# Altium schematic symbol library kmilo17pet-PIC16_Part2.SchLib: 1569 symbols (part 41 of 56)
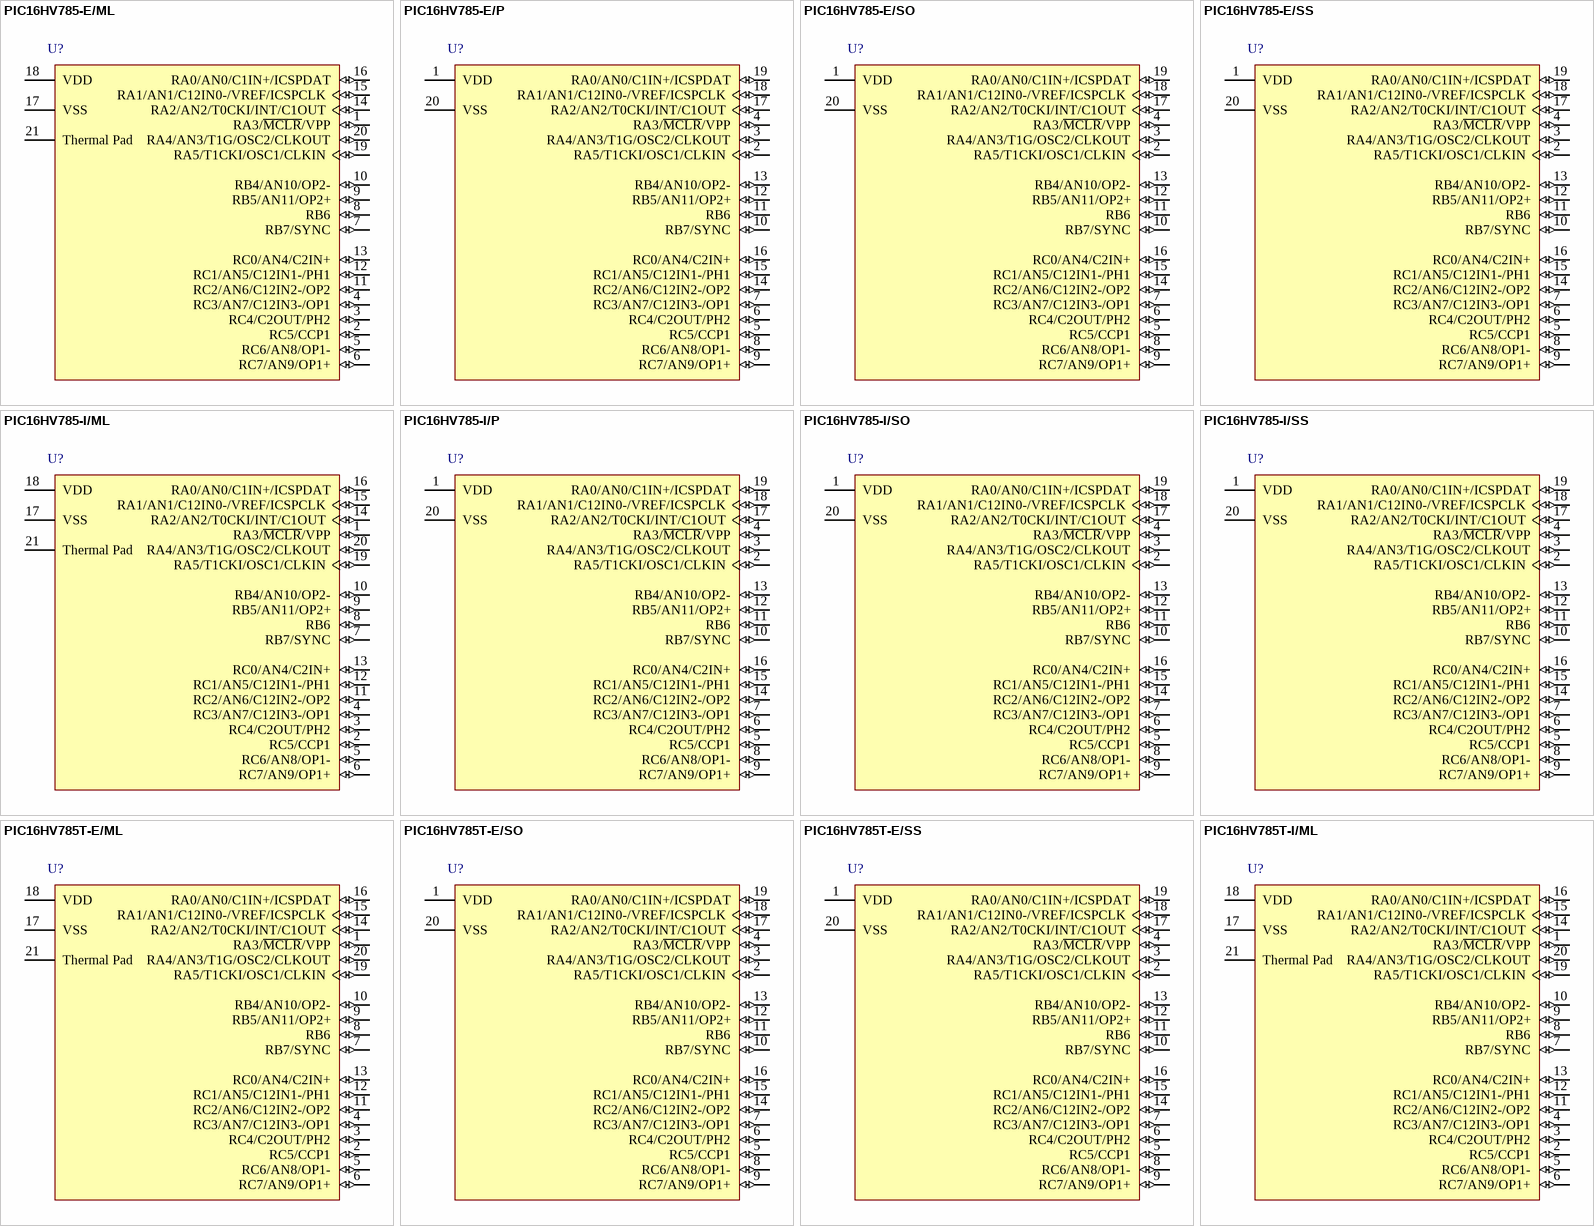
[diagram p165: symbols PIC16HV785-E/ML to PIC16HV785T-I/ML]

## PIC16HV785-I/SS
designator U?
Flash-Based 8-Bit CMOS Microcontroller, 2K (x14-Bit words) Program Memory, 384 Bytes Data Memory, 17 I/O pins, 20-Pin SSOP, Industrial Temperature; Manufacturer: Microchip; PartNumber: PIC16HV785-I/SS; DatasheetVersion: revE, Seb-2008; PackageVersion: revBB, Aug-2009; PackageReference: SSOP-SS20; PackageDescription: 20-Lead Plastic Shrink Small Outline (SS) - 5.3mm Body [SSOP]; Supplier 1: Digi-Key; Supplier Part Number 1: PIC16HV785-I/SS-ND; Supplier 2: Farnell; Supplier Part Number 2: 1332227; Supplier 3: Newark; Supplier Part Number 3: 34M8004; Supplier 4: Mouser; Supplier Part Number 4: 579-PIC16HV785-I/SS; Code_JEDEC: MO-150; ComponentLink1Description: Manufacturer URL; ComponentLink1URL: http://www.microchip.com/; ComponentLink2Description: Datasheet; ComponentLink2URL: http://ww1.microchip.com/downloads/en/DeviceDoc/41249E.pdf; ComponentLink3Description: Package Specification; ComponentLink3URL: http://www.microchip.com/stellent/groups/techpub_sg/documents/packagingspec/en012702.pdf
footprint SSOP-SS20_N (SOP, 20-Leads, Body 7.2x5.2mm, Pitch 0.65mm, IPC Medium Density)
footprint SSOP-SS20_L (SOP, 20-Leads, Body 7.2x5.2mm, Pitch 0.65mm, IPC High Density)
footprint SSOP-SS20_M (SOP, 20-Leads, Body 7.2x5.2mm, Pitch 0.65mm, IPC Low Density)
pins: 1 VDD (power), 2 RA5/T1CKI/OSC1/CLKIN (io), 3 RA4/AN3/T1G/OSC2/CLKOUT (io), 4 RA3/~{MCLR}/VPP (io), 5 RC5/CCP1 (io), 6 RC4/C2OUT/PH2 (io), 7 RC3/AN7/C12IN3-/OP1 (io), 8 RC6/AN8/OP1- (io), 9 RC7/AN9/OP1+ (io), 10 RB7/SYNC (io), 11 RB6 (io), 12 RB5/AN11/OP2+ (io), 13 RB4/AN10/OP2- (io), 14 RC2/AN6/C12IN2-/OP2 (io), 15 RC1/AN5/C12IN1-/PH1 (io), 16 RC0/AN4/C2IN+ (io), 17 RA2/AN2/T0CKI/INT/C1OUT (io), 18 RA1/AN1/C12IN0-/VREF/ICSPCLK (io), 19 RA0/AN0/C1IN+/ICSPDAT (io), 20 VSS (power)

## PIC16HV785T-E/ML
designator U?
Flash-Based 8-Bit CMOS Microcontroller, 2K (x14-Bit words) Program Memory, 384 Bytes Data Memory, 17 I/O pins, 20-Pin QFN, Extended Temperature, Tape and Reel; Manufacturer: Microchip; PartNumber: PIC16HV785T-E/ML; DatasheetVersion: revE, Seb-2008; PackageVersion: revBB, Aug-2009; PackageReference: QFN-ML20; PackageDescription: 20-Lead Plastic Quad Flat, No Lead Package (ML) - 4x4x0.9 mm Body [QFN]; ComponentLink1Description: Manufacturer URL; ComponentLink1URL: http://www.microchip.com/; ComponentLink2Description: Datasheet; ComponentLink2URL: http://ww1.microchip.com/downloads/en/DeviceDoc/41249E.pdf; ComponentLink3Description: Package Specification; ComponentLink3URL: http://www.microchip.com/stellent/groups/techpub_sg/documents/packagingspec/en012702.pdf
footprint QFN-ML20_N (QFN, 20-Leads, Body 4x4mm, Pitch 0.5mm, Thermal Pad 2.8x2.8mm, IPC Medium Density)
footprint QFN-ML20_L (QFN, 20-Leads, Body 4x4mm, Pitch 0.5mm, Thermal Pad 2.8x2.8mm, IPC High Density)
footprint QFN-ML20_M (QFN, 20-Leads, Body 4x4mm, Pitch 0.5mm, Thermal Pad 2.8x2.8mm, IPC Low Density)
pins: 1 RA3/~{MCLR}/VPP (io), 2 RC5/CCP1 (io), 3 RC4/C2OUT/PH2 (io), 4 RC3/AN7/C12IN3-/OP1 (io), 5 RC6/AN8/OP1- (io), 6 RC7/AN9/OP1+ (io), 7 RB7/SYNC (io), 8 RB6 (io), 9 RB5/AN11/OP2+ (io), 10 RB4/AN10/OP2- (io), 11 RC2/AN6/C12IN2-/OP2 (io), 12 RC1/AN5/C12IN1-/PH1 (io), 13 RC0/AN4/C2IN+ (io), 14 RA2/AN2/T0CKI/INT/C1OUT (io), 15 RA1/AN1/C12IN0-/VREF/ICSPCLK (io), 16 RA0/AN0/C1IN+/ICSPDAT (io), 17 VSS (power), 18 VDD (power), 19 RA5/T1CKI/OSC1/CLKIN (io), 20 RA4/AN3/T1G/OSC2/CLKOUT (io), 21 Thermal Pad

## PIC16HV785T-E/SO
designator U?
Flash-Based 8-Bit CMOS Microcontroller, 2K (x14-Bit words) Program Memory, 384 Bytes Data Memory, 17 I/O pins, 20-Pin SOIC, Extended Temperature, Tape and Reel; Manufacturer: Microchip; PartNumber: PIC16HV785T-E/SO; DatasheetVersion: revE, Seb-2008; PackageVersion: revBB, Aug-2009; PackageReference: SOIC-SO20; PackageDescription: 20-Lead Plastic Small Outline (SO) - Wide 7.50mm Body [SOIC]; Code_JEDEC: MS-013-AC; Code_IPC: SOIC127P1030-20; ComponentLink1Description: Manufacturer URL; ComponentLink1URL: http://www.microchip.com/; ComponentLink2Description: Datasheet; ComponentLink2URL: http://ww1.microchip.com/downloads/en/DeviceDoc/41249E.pdf; ComponentLink3Description: Package Specification; ComponentLink3URL: http://www.microchip.com/stellent/groups/techpub_sg/documents/packagingspec/en012702.pdf
footprint SOIC-SO20_N (SOIC, 20-Leads, Body 12.8x7.5mm, Pitch 1.27mm, IPC Medium Density)
footprint SOIC-SO20_L (SOIC, 20-Leads, Body 12.8x7.5mm, Pitch 1.27mm, IPC High Density)
footprint SOIC-SO20_M (SOIC, 20-Leads, Body 12.8x7.5mm, Pitch 1.27mm, IPC Low Density)
pins: 1 VDD (power), 2 RA5/T1CKI/OSC1/CLKIN (io), 3 RA4/AN3/T1G/OSC2/CLKOUT (io), 4 RA3/~{MCLR}/VPP (io), 5 RC5/CCP1 (io), 6 RC4/C2OUT/PH2 (io), 7 RC3/AN7/C12IN3-/OP1 (io), 8 RC6/AN8/OP1- (io), 9 RC7/AN9/OP1+ (io), 10 RB7/SYNC (io), 11 RB6 (io), 12 RB5/AN11/OP2+ (io), 13 RB4/AN10/OP2- (io), 14 RC2/AN6/C12IN2-/OP2 (io), 15 RC1/AN5/C12IN1-/PH1 (io), 16 RC0/AN4/C2IN+ (io), 17 RA2/AN2/T0CKI/INT/C1OUT (io), 18 RA1/AN1/C12IN0-/VREF/ICSPCLK (io), 19 RA0/AN0/C1IN+/ICSPDAT (io), 20 VSS (power)

## PIC16HV785T-E/SS
designator U?
Flash-Based 8-Bit CMOS Microcontroller, 2K (x14-Bit words) Program Memory, 384 Bytes Data Memory, 17 I/O pins, 20-Pin SSOP, Extended Temperature, Tape and Reel; Manufacturer: Microchip; PartNumber: PIC16HV785T-E/SS; DatasheetVersion: revE, Seb-2008; PackageVersion: revBB, Aug-2009; PackageReference: SSOP-SS20; PackageDescription: 20-Lead Plastic Shrink Small Outline (SS) - 5.3mm Body [SSOP]; Code_JEDEC: MO-150; ComponentLink1Description: Manufacturer URL; ComponentLink1URL: http://www.microchip.com/; ComponentLink2Description: Datasheet; ComponentLink2URL: http://ww1.microchip.com/downloads/en/DeviceDoc/41249E.pdf; ComponentLink3Description: Package Specification; ComponentLink3URL: http://www.microchip.com/stellent/groups/techpub_sg/documents/packagingspec/en012702.pdf
footprint SSOP-SS20_N (SOP, 20-Leads, Body 7.2x5.2mm, Pitch 0.65mm, IPC Medium Density)
footprint SSOP-SS20_L (SOP, 20-Leads, Body 7.2x5.2mm, Pitch 0.65mm, IPC High Density)
footprint SSOP-SS20_M (SOP, 20-Leads, Body 7.2x5.2mm, Pitch 0.65mm, IPC Low Density)
pins: 1 VDD (power), 2 RA5/T1CKI/OSC1/CLKIN (io), 3 RA4/AN3/T1G/OSC2/CLKOUT (io), 4 RA3/~{MCLR}/VPP (io), 5 RC5/CCP1 (io), 6 RC4/C2OUT/PH2 (io), 7 RC3/AN7/C12IN3-/OP1 (io), 8 RC6/AN8/OP1- (io), 9 RC7/AN9/OP1+ (io), 10 RB7/SYNC (io), 11 RB6 (io), 12 RB5/AN11/OP2+ (io), 13 RB4/AN10/OP2- (io), 14 RC2/AN6/C12IN2-/OP2 (io), 15 RC1/AN5/C12IN1-/PH1 (io), 16 RC0/AN4/C2IN+ (io), 17 RA2/AN2/T0CKI/INT/C1OUT (io), 18 RA1/AN1/C12IN0-/VREF/ICSPCLK (io), 19 RA0/AN0/C1IN+/ICSPDAT (io), 20 VSS (power)

## PIC16HV785T-I/ML
designator U?
Flash-Based 8-Bit CMOS Microcontroller, 2K (x14-Bit words) Program Memory, 384 Bytes Data Memory, 17 I/O pins, 20-Pin QFN, Industrial Temperature, Tape and Reel; Manufacturer: Microchip; PartNumber: PIC16HV785T-I/ML; DatasheetVersion: revE, Seb-2008; PackageVersion: revBB, Aug-2009; PackageReference: QFN-ML20; PackageDescription: 20-Lead Plastic Quad Flat, No Lead Package (ML) - 4x4x0.9 mm Body [QFN]; Supplier 1: Digi-Key; Supplier Part Number 1: PIC16HV785T-I/ML-ND; Supplier 2: Mouser; Supplier Part Number 2: 579-PIC16HV785T-I/ML; ComponentLink1Description: Manufacturer URL; ComponentLink1URL: http://www.microchip.com/; ComponentLink2Description: Datasheet; ComponentLink2URL: http://ww1.microchip.com/downloads/en/DeviceDoc/41249E.pdf; ComponentLink3Description: Package Specification; ComponentLink3URL: http://www.microchip.com/stellent/groups/techpub_sg/documents/packagingspec/en012702.pdf
footprint QFN-ML20_N (QFN, 20-Leads, Body 4x4mm, Pitch 0.5mm, Thermal Pad 2.8x2.8mm, IPC Medium Density)
footprint QFN-ML20_L (QFN, 20-Leads, Body 4x4mm, Pitch 0.5mm, Thermal Pad 2.8x2.8mm, IPC High Density)
footprint QFN-ML20_M (QFN, 20-Leads, Body 4x4mm, Pitch 0.5mm, Thermal Pad 2.8x2.8mm, IPC Low Density)
pins: 1 RA3/~{MCLR}/VPP (io), 2 RC5/CCP1 (io), 3 RC4/C2OUT/PH2 (io), 4 RC3/AN7/C12IN3-/OP1 (io), 5 RC6/AN8/OP1- (io), 6 RC7/AN9/OP1+ (io), 7 RB7/SYNC (io), 8 RB6 (io), 9 RB5/AN11/OP2+ (io), 10 RB4/AN10/OP2- (io), 11 RC2/AN6/C12IN2-/OP2 (io), 12 RC1/AN5/C12IN1-/PH1 (io), 13 RC0/AN4/C2IN+ (io), 14 RA2/AN2/T0CKI/INT/C1OUT (io), 15 RA1/AN1/C12IN0-/VREF/ICSPCLK (io), 16 RA0/AN0/C1IN+/ICSPDAT (io), 17 VSS (power), 18 VDD (power), 19 RA5/T1CKI/OSC1/CLKIN (io), 20 RA4/AN3/T1G/OSC2/CLKOUT (io), 21 Thermal Pad

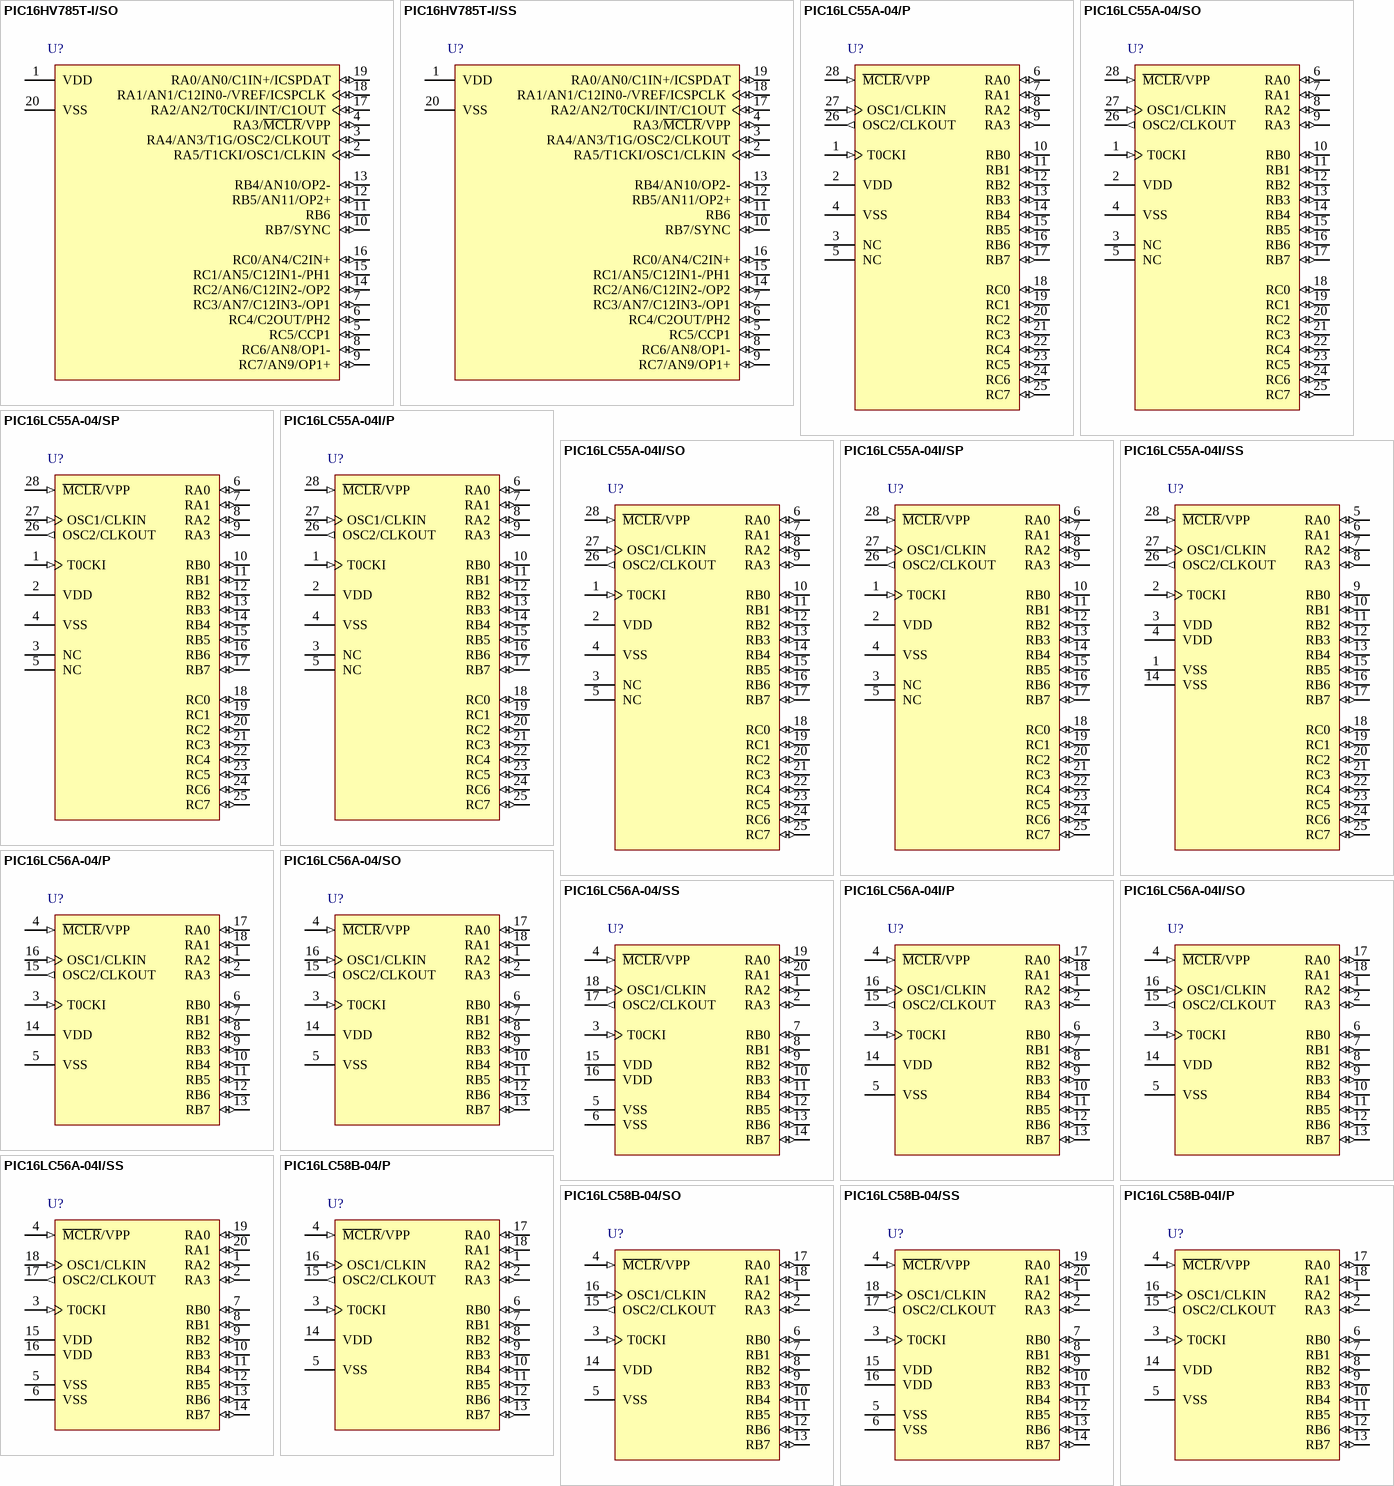
[diagram p88: symbols PIC16HV785T-I/SO to PIC16LC58B-04I/P]

## PIC16HV785T-I/SO
designator U?
Flash-Based 8-Bit CMOS Microcontroller, 2K (x14-Bit words) Program Memory, 384 Bytes Data Memory, 17 I/O pins, 20-Pin SOIC, Industrial Temperature, Tape and Reel; Manufacturer: Microchip; PartNumber: PIC16HV785T-I/SO; DatasheetVersion: revE, Seb-2008; PackageVersion: revBB, Aug-2009; PackageReference: SOIC-SO20; PackageDescription: 20-Lead Plastic Small Outline (SO) - Wide 7.50mm Body [SOIC]; Supplier 1: Digi-Key; Supplier Part Number 1: PIC16HV785T-I/SO-ND; Supplier 2: Mouser; Supplier Part Number 2: 579-PIC16HV785T-I/SO; Code_JEDEC: MS-013-AC; Code_IPC: SOIC127P1030-20; ComponentLink1Description: Manufacturer URL; ComponentLink1URL: http://www.microchip.com/; ComponentLink2Description: Datasheet; ComponentLink2URL: http://ww1.microchip.com/downloads/en/DeviceDoc/41249E.pdf; ComponentLink3Description: Package Specification; ComponentLink3URL: http://www.microchip.com/stellent/groups/techpub_sg/documents/packagingspec/en012702.pdf
footprint SOIC-SO20_N (SOIC, 20-Leads, Body 12.8x7.5mm, Pitch 1.27mm, IPC Medium Density)
footprint SOIC-SO20_L (SOIC, 20-Leads, Body 12.8x7.5mm, Pitch 1.27mm, IPC High Density)
footprint SOIC-SO20_M (SOIC, 20-Leads, Body 12.8x7.5mm, Pitch 1.27mm, IPC Low Density)
pins: 1 VDD (power), 2 RA5/T1CKI/OSC1/CLKIN (io), 3 RA4/AN3/T1G/OSC2/CLKOUT (io), 4 RA3/~{MCLR}/VPP (io), 5 RC5/CCP1 (io), 6 RC4/C2OUT/PH2 (io), 7 RC3/AN7/C12IN3-/OP1 (io), 8 RC6/AN8/OP1- (io), 9 RC7/AN9/OP1+ (io), 10 RB7/SYNC (io), 11 RB6 (io), 12 RB5/AN11/OP2+ (io), 13 RB4/AN10/OP2- (io), 14 RC2/AN6/C12IN2-/OP2 (io), 15 RC1/AN5/C12IN1-/PH1 (io), 16 RC0/AN4/C2IN+ (io), 17 RA2/AN2/T0CKI/INT/C1OUT (io), 18 RA1/AN1/C12IN0-/VREF/ICSPCLK (io), 19 RA0/AN0/C1IN+/ICSPDAT (io), 20 VSS (power)

## PIC16HV785T-I/SS
designator U?
Flash-Based 8-Bit CMOS Microcontroller, 2K (x14-Bit words) Program Memory, 384 Bytes Data Memory, 17 I/O pins, 20-Pin SSOP, Industrial Temperature, Tape and Reel; Manufacturer: Microchip; PartNumber: PIC16HV785T-I/SS; DatasheetVersion: revE, Seb-2008; PackageVersion: revBB, Aug-2009; PackageReference: SSOP-SS20; PackageDescription: 20-Lead Plastic Shrink Small Outline (SS) - 5.3mm Body [SSOP]; Supplier 1: Digi-Key; Supplier Part Number 1: PIC16HV785T-I/SS-ND; Supplier 2: Mouser; Supplier Part Number 2: 579-PIC16HV785T-I/SS; Code_JEDEC: MO-150; ComponentLink1Description: Manufacturer URL; ComponentLink1URL: http://www.microchip.com/; ComponentLink2Description: Datasheet; ComponentLink2URL: http://ww1.microchip.com/downloads/en/DeviceDoc/41249E.pdf; ComponentLink3Description: Package Specification; ComponentLink3URL: http://www.microchip.com/stellent/groups/techpub_sg/documents/packagingspec/en012702.pdf
footprint SSOP-SS20_N (SOP, 20-Leads, Body 7.2x5.2mm, Pitch 0.65mm, IPC Medium Density)
footprint SSOP-SS20_L (SOP, 20-Leads, Body 7.2x5.2mm, Pitch 0.65mm, IPC High Density)
footprint SSOP-SS20_M (SOP, 20-Leads, Body 7.2x5.2mm, Pitch 0.65mm, IPC Low Density)
pins: 1 VDD (power), 2 RA5/T1CKI/OSC1/CLKIN (io), 3 RA4/AN3/T1G/OSC2/CLKOUT (io), 4 RA3/~{MCLR}/VPP (io), 5 RC5/CCP1 (io), 6 RC4/C2OUT/PH2 (io), 7 RC3/AN7/C12IN3-/OP1 (io), 8 RC6/AN8/OP1- (io), 9 RC7/AN9/OP1+ (io), 10 RB7/SYNC (io), 11 RB6 (io), 12 RB5/AN11/OP2+ (io), 13 RB4/AN10/OP2- (io), 14 RC2/AN6/C12IN2-/OP2 (io), 15 RC1/AN5/C12IN1-/PH1 (io), 16 RC0/AN4/C2IN+ (io), 17 RA2/AN2/T0CKI/INT/C1OUT (io), 18 RA1/AN1/C12IN0-/VREF/ICSPCLK (io), 19 RA0/AN0/C1IN+/ICSPDAT (io), 20 VSS (power)

## PIC16LC55A-04/P
designator U?
EPROM-Based 8-Bit CMOS Microcontroller, 24 Bytes RAM, 4 MHz, 28-Pin PDIP 600mil, 2.5 to 5.5V Supply Range, Commercial Temperature; Manufacturer: Microchip; PartNumber: PIC16LC55A-04/P; DatasheetVersion: revD, Mar-2002; PackageVersion: revBB, Aug-2009; PackageReference: PDIP600-P28; PackageDescription: 28-Lead Plastic Dual In-Line (P) - 600 mil Body [PDIP]; Supplier 1: Digi-Key; Supplier Part Number 1: PIC16LC55A-04/P-ND; Supplier 2: Mouser; Supplier Part Number 2: 579-PIC16LC55A-04/P; Code_JEDEC: MO-011; ComponentLink1Description: Manufacturer URL; ComponentLink1URL: http://www.microchip.com/; ComponentLink2Description: Datasheet; ComponentLink2URL: http://ww1.microchip.com/downloads/en/DeviceDoc/30453d.pdf; ComponentLink3Description: Package Specification; ComponentLink3URL: http://www.microchip.com/stellent/groups/techpub_sg/documents/packagingspec/en012702.pdf
footprint PDIP600-P28 (DIP, 28-Leads, Row Spacing 15.24mm, Pitch 2.54mm, Body 37.4x13.5mm)
pins: 1 T0CKI (in), 2 VDD (power), 3 NC, 4 VSS (power), 5 NC, 6 RA0 (io), 7 RA1 (io), 8 RA2 (io), 9 RA3 (io), 10 RB0 (io), 11 RB1 (io), 12 RB2 (io), 13 RB3 (io), 14 RB4 (io), 15 RB5 (io), 16 RB6 (io), 17 RB7 (io), 18 RC0 (io), 19 RC1 (io), 20 RC2 (io), 21 RC3 (io), 22 RC4 (io), 23 RC5 (io), 24 RC6 (io), 25 RC7 (io), 26 OSC2/CLKOUT (out), 27 OSC1/CLKIN (in), 28 ~{MCLR}/VPP (in)

## PIC16LC55A-04/SO
designator U?
EPROM-Based 8-Bit CMOS Microcontroller, 24 Bytes RAM, 4 MHz, 28-Pin SOIC, 2.5 to 5.5V Supply Range, Commercial Temperature; Manufacturer: Microchip; PartNumber: PIC16LC55A-04/SO; DatasheetVersion: revD, Mar-2002; PackageVersion: revBB, Aug-2009; PackageReference: SOIC-SO28; PackageDescription: 28-Lead Plastic Small Outline (SO) - Wide 7.50mm Body [SOIC]; Supplier 1: Digi-Key; Supplier Part Number 1: PIC16LC55A-04/SO-ND; Supplier 2: Newark; Supplier Part Number 2: 23C5186; Supplier 3: Mouser; Supplier Part Number 3: 579-PIC16LC55A-04/SO; Code_JEDEC: MS-013; ComponentLink1Description: Manufacturer URL; ComponentLink1URL: http://www.microchip.com/; ComponentLink2Description: Datasheet; ComponentLink2URL: http://ww1.microchip.com/downloads/en/DeviceDoc/30453d.pdf; ComponentLink3Description: Package Specification; ComponentLink3URL: http://www.microchip.com/stellent/groups/techpub_sg/documents/packagingspec/en012702.pdf
footprint SOIC-SO28_N (SOIC, 28-Leads, Body 17.9x7.5mm, Pitch 1.27mm, IPC Medium Density)
footprint SOIC-SO28_L (SOIC, 28-Leads, Body 17.9x7.5mm, Pitch 1.27mm, IPC High Density)
footprint SOIC-SO28_M (SOIC, 28-Leads, Body 17.9x7.5mm, Pitch 1.27mm, IPC Low Density)
pins: 1 T0CKI (in), 2 VDD (power), 3 NC, 4 VSS (power), 5 NC, 6 RA0 (io), 7 RA1 (io), 8 RA2 (io), 9 RA3 (io), 10 RB0 (io), 11 RB1 (io), 12 RB2 (io), 13 RB3 (io), 14 RB4 (io), 15 RB5 (io), 16 RB6 (io), 17 RB7 (io), 18 RC0 (io), 19 RC1 (io), 20 RC2 (io), 21 RC3 (io), 22 RC4 (io), 23 RC5 (io), 24 RC6 (io), 25 RC7 (io), 26 OSC2/CLKOUT (out), 27 OSC1/CLKIN (in), 28 ~{MCLR}/VPP (in)

## PIC16LC55A-04/SP
designator U?
EPROM-Based 8-Bit CMOS Microcontroller, 24 Bytes RAM, 4 MHz, 28-Pin PDIP 300mil, 2.5 to 5.5V Supply Range, Commercial Temperature; Manufacturer: Microchip; PartNumber: PIC16LC55A-04/SP; DatasheetVersion: revD, Mar-2002; PackageVersion: revBB, Aug-2009; PackageReference: SPDIP300-SP28; PackageDescription: 28-Lead Skinny Plastic Dual In-Line (SP) - 300 mil Body [SPDIP]; Supplier 1: Digi-Key; Supplier Part Number 1: PIC16LC55A-04/SP-ND; Supplier 2: Mouser; Supplier Part Number 2: 579-PIC16LC55A-04/SP; ComponentLink1Description: Manufacturer URL; ComponentLink1URL: http://www.microchip.com/; ComponentLink2Description: Datasheet; ComponentLink2URL: http://ww1.microchip.com/downloads/en/DeviceDoc/30453d.pdf; ComponentLink3Description: Package Specification; ComponentLink3URL: http://www.microchip.com/stellent/groups/techpub_sg/documents/packagingspec/en012702.pdf
footprint SPDIP300-SP28 (DIP, 28-Leads, Row Spacing 7.62mm, Pitch 2.54mm, Body 34.9x6.8mm)
pins: 1 T0CKI (in), 2 VDD (power), 3 NC, 4 VSS (power), 5 NC, 6 RA0 (io), 7 RA1 (io), 8 RA2 (io), 9 RA3 (io), 10 RB0 (io), 11 RB1 (io), 12 RB2 (io), 13 RB3 (io), 14 RB4 (io), 15 RB5 (io), 16 RB6 (io), 17 RB7 (io), 18 RC0 (io), 19 RC1 (io), 20 RC2 (io), 21 RC3 (io), 22 RC4 (io), 23 RC5 (io), 24 RC6 (io), 25 RC7 (io), 26 OSC2/CLKOUT (out), 27 OSC1/CLKIN (in), 28 ~{MCLR}/VPP (in)

## PIC16LC55A-04I/P
designator U?
EPROM-Based 8-Bit CMOS Microcontroller, 24 Bytes RAM, 4 MHz, 28-Pin PDIP 600mil, 2.7 to 5.5V Supply Range, Industrial Temperature; Manufacturer: Microchip; PartNumber: PIC16LC55A-04I/P; DatasheetVersion: revD, Mar-2002; PackageVersion: revBB, Aug-2009; PackageReference: PDIP600-P28; PackageDescription: 28-Lead Plastic Dual In-Line (P) - 600 mil Body [PDIP]; Supplier 1: Digi-Key; Supplier Part Number 1: PIC16LC55A-04I/P-ND; Supplier 2: Mouser; Supplier Part Number 2: 579-PIC16LC55A-04I/P; Code_JEDEC: MO-011; ComponentLink1Description: Manufacturer URL; ComponentLink1URL: http://www.microchip.com/; ComponentLink2Description: Datasheet; ComponentLink2URL: http://ww1.microchip.com/downloads/en/DeviceDoc/30453d.pdf; ComponentLink3Description: Package Specification; ComponentLink3URL: http://www.microchip.com/stellent/groups/techpub_sg/documents/packagingspec/en012702.pdf
footprint PDIP600-P28 (DIP, 28-Leads, Row Spacing 15.24mm, Pitch 2.54mm, Body 37.4x13.5mm)
pins: 1 T0CKI (in), 2 VDD (power), 3 NC, 4 VSS (power), 5 NC, 6 RA0 (io), 7 RA1 (io), 8 RA2 (io), 9 RA3 (io), 10 RB0 (io), 11 RB1 (io), 12 RB2 (io), 13 RB3 (io), 14 RB4 (io), 15 RB5 (io), 16 RB6 (io), 17 RB7 (io), 18 RC0 (io), 19 RC1 (io), 20 RC2 (io), 21 RC3 (io), 22 RC4 (io), 23 RC5 (io), 24 RC6 (io), 25 RC7 (io), 26 OSC2/CLKOUT (out), 27 OSC1/CLKIN (in), 28 ~{MCLR}/VPP (in)

## PIC16LC55A-04I/SO
designator U?
EPROM-Based 8-Bit CMOS Microcontroller, 24 Bytes RAM, 4 MHz, 28-Pin SOIC, 2.7 to 5.5V Supply Range, Industrial Temperature; Manufacturer: Microchip; PartNumber: PIC16LC55A-04I/SO; DatasheetVersion: revD, Mar-2002; PackageVersion: revBB, Aug-2009; PackageReference: SOIC-SO28; PackageDescription: 28-Lead Plastic Small Outline (SO) - Wide 7.50mm Body [SOIC]; Supplier 1: Digi-Key; Supplier Part Number 1: PIC16LC55A-04I/SO-ND; Supplier 2: Mouser; Supplier Part Number 2: 579-16LC55A-04I/SO; Code_JEDEC: MS-013; ComponentLink1Description: Manufacturer URL; ComponentLink1URL: http://www.microchip.com/; ComponentLink2Description: Datasheet; ComponentLink2URL: http://ww1.microchip.com/downloads/en/DeviceDoc/30453d.pdf; ComponentLink3Description: Package Specification; ComponentLink3URL: http://www.microchip.com/stellent/groups/techpub_sg/documents/packagingspec/en012702.pdf
footprint SOIC-SO28_N (SOIC, 28-Leads, Body 17.9x7.5mm, Pitch 1.27mm, IPC Medium Density)
footprint SOIC-SO28_L (SOIC, 28-Leads, Body 17.9x7.5mm, Pitch 1.27mm, IPC High Density)
footprint SOIC-SO28_M (SOIC, 28-Leads, Body 17.9x7.5mm, Pitch 1.27mm, IPC Low Density)
pins: 1 T0CKI (in), 2 VDD (power), 3 NC, 4 VSS (power), 5 NC, 6 RA0 (io), 7 RA1 (io), 8 RA2 (io), 9 RA3 (io), 10 RB0 (io), 11 RB1 (io), 12 RB2 (io), 13 RB3 (io), 14 RB4 (io), 15 RB5 (io), 16 RB6 (io), 17 RB7 (io), 18 RC0 (io), 19 RC1 (io), 20 RC2 (io), 21 RC3 (io), 22 RC4 (io), 23 RC5 (io), 24 RC6 (io), 25 RC7 (io), 26 OSC2/CLKOUT (out), 27 OSC1/CLKIN (in), 28 ~{MCLR}/VPP (in)

## PIC16LC55A-04I/SP
designator U?
EPROM-Based 8-Bit CMOS Microcontroller, 24 Bytes RAM, 4 MHz, 28-Pin PDIP 300mil, 2.7 to 5.5V Supply Range, Industrial Temperature; Manufacturer: Microchip; PartNumber: PIC16LC55A-04I/SP; DatasheetVersion: revD, Mar-2002; PackageVersion: revBB, Aug-2009; PackageReference: SPDIP300-SP28; PackageDescription: 28-Lead Skinny Plastic Dual In-Line (SP) - 300 mil Body [SPDIP]; Supplier 1: Digi-Key; Supplier Part Number 1: PIC16LC55A-04I/SP-ND; Supplier 2: Mouser; Supplier Part Number 2: 579-16LC55A-04I/SP; ComponentLink1Description: Manufacturer URL; ComponentLink1URL: http://www.microchip.com/; ComponentLink2Description: Datasheet; ComponentLink2URL: http://ww1.microchip.com/downloads/en/DeviceDoc/30453d.pdf; ComponentLink3Description: Package Specification; ComponentLink3URL: http://www.microchip.com/stellent/groups/techpub_sg/documents/packagingspec/en012702.pdf
footprint SPDIP300-SP28 (DIP, 28-Leads, Row Spacing 7.62mm, Pitch 2.54mm, Body 34.9x6.8mm)
pins: 1 T0CKI (in), 2 VDD (power), 3 NC, 4 VSS (power), 5 NC, 6 RA0 (io), 7 RA1 (io), 8 RA2 (io), 9 RA3 (io), 10 RB0 (io), 11 RB1 (io), 12 RB2 (io), 13 RB3 (io), 14 RB4 (io), 15 RB5 (io), 16 RB6 (io), 17 RB7 (io), 18 RC0 (io), 19 RC1 (io), 20 RC2 (io), 21 RC3 (io), 22 RC4 (io), 23 RC5 (io), 24 RC6 (io), 25 RC7 (io), 26 OSC2/CLKOUT (out), 27 OSC1/CLKIN (in), 28 ~{MCLR}/VPP (in)

## PIC16LC55A-04I/SS
designator U?
EPROM-Based 8-Bit CMOS Microcontroller, 24 Bytes RAM, 4 MHz, 28-Pin SSOP, 2.7 to 5.5V Supply Range, Industrial Temperature; Manufacturer: Microchip; PartNumber: PIC16LC55A-04I/SS; DatasheetVersion: revD, Mar-2002; PackageVersion: revBB, Aug-2009; PackageReference: SSOP-SS28; PackageDescription: 28-Lead Plastic Shrink Small Outline (SS) - 5.3mm Body [SSOP]; Supplier 1: Digi-Key; Supplier Part Number 1: PIC16LC55A-04I/SS-ND; Supplier 2: Mouser; Supplier Part Number 2: 579-16LC55A-04I/SS; Code_JEDEC: MS-150; ComponentLink1Description: Manufacturer URL; ComponentLink1URL: http://www.microchip.com/; ComponentLink2Description: Datasheet; ComponentLink2URL: http://ww1.microchip.com/downloads/en/DeviceDoc/30453d.pdf; ComponentLink3Description: Package Specification; ComponentLink3URL: http://www.microchip.com/stellent/groups/techpub_sg/documents/packagingspec/en012702.pdf
footprint SSOP-SS28_N (SOP, 28-Leads, Body 10.2x5.2mm, Pitch 0.65mm, IPC Medium Density)
footprint SSOP-SS28_L (SOP, 28-Leads, Body 10.2x5.2mm, Pitch 0.65mm, IPC High Density)
footprint SSOP-SS28_M (SOP, 28-Leads, Body 10.2x5.2mm, Pitch 0.65mm, IPC Low Density)
pins: 1 VSS (power), 2 T0CKI (in), 3 VDD (power), 4 VDD (power), 5 RA0 (io), 6 RA1 (io), 7 RA2 (io), 8 RA3 (io), 9 RB0 (io), 10 RB1 (io), 11 RB2 (io), 12 RB3 (io), 13 RB4 (io), 14 VSS (power), 15 RB5 (io), 16 RB6 (io), 17 RB7 (io), 18 RC0 (io), 19 RC1 (io), 20 RC2 (io), 21 RC3 (io), 22 RC4 (io), 23 RC5 (io), 24 RC6 (io), 25 RC7 (io), 26 OSC2/CLKOUT (out), 27 OSC1/CLKIN (in), 28 ~{MCLR}/VPP (in)

## PIC16LC56A-04/P
designator U?
EPROM-Based 8-Bit CMOS Microcontroller, 25 Bytes RAM, 4 MHz, 18-Pin PDIP, 2.5 to 5.5V Supply Range, Commercial Temperature; Manufacturer: Microchip; PartNumber: PIC16LC56A-04/P; DatasheetVersion: revD, Mar-2002; PackageVersion: revBB, Aug-2009; PackageReference: PDIP300-P18; PackageDescription: 18-Lead Plastic Dual In-Line (P) - 300 mil Body [PDIP]; Supplier 1: Digi-Key; Supplier Part Number 1: PIC16LC56A-04/P-ND; Supplier 2: Mouser; Supplier Part Number 2: 579-PIC16LC56A-04/P; Code_JEDEC: MS-001; ComponentLink1Description: Manufacturer URL; ComponentLink1URL: http://www.microchip.com/; ComponentLink2Description: Datasheet; ComponentLink2URL: http://ww1.microchip.com/downloads/en/DeviceDoc/30453d.pdf; ComponentLink3Description: Package Specification; ComponentLink3URL: http://www.microchip.com/stellent/groups/techpub_sg/documents/packagingspec/en012702.pdf
footprint PDIP300-P18 (DIP, 18-Leads, Row Spacing 7.62mm, Pitch 2.54mm, Body 22.9x6.6mm)
pins: 1 RA2 (io), 2 RA3 (io), 3 T0CKI (in), 4 ~{MCLR}/VPP (in), 5 VSS (power), 6 RB0 (io), 7 RB1 (io), 8 RB2 (io), 9 RB3 (io), 10 RB4 (io), 11 RB5 (io), 12 RB6 (io), 13 RB7 (io), 14 VDD (power), 15 OSC2/CLKOUT (out), 16 OSC1/CLKIN (in), 17 RA0 (io), 18 RA1 (io)

## PIC16LC56A-04/SO
designator U?
EPROM-Based 8-Bit CMOS Microcontroller, 25 Bytes RAM, 4 MHz, 18-Pin SOIC, 2.5 to 5.5V Supply Range, Commercial Temperature; Manufacturer: Microchip; PartNumber: PIC16LC56A-04/SO; DatasheetVersion: revD, Mar-2002; PackageVersion: revBB, Aug-2009; PackageReference: SOIC-SO18; PackageDescription: 18-Lead Plastic Small Outline (SO) - Wide 7.50mm Body [SOIC]; Supplier 1: Digi-Key; Supplier Part Number 1: PIC16LC56A-04/SO-ND; Supplier 2: Mouser; Supplier Part Number 2: 579-PIC16LC56A-04/SO; Code_JEDEC: MS-013; ComponentLink1Description: Manufacturer URL; ComponentLink1URL: http://www.microchip.com/; ComponentLink2Description: Datasheet; ComponentLink2URL: http://ww1.microchip.com/downloads/en/DeviceDoc/30453d.pdf; ComponentLink3Description: Package Specification; ComponentLink3URL: http://www.microchip.com/stellent/groups/techpub_sg/documents/packagingspec/en012702.pdf
footprint SOIC-SO18_N (SOIC, 18-Leads, Body 11.5x7.5mm, Pitch 1.27mm, IPC Medium Density)
footprint SOIC-SO18_L (SOIC, 18-Leads, Body 11.5x7.5mm, Pitch 1.27mm, IPC High Density)
footprint SOIC-SO18_M (SOIC, 18-Leads, Body 11.5x7.5mm, Pitch 1.27mm, IPC Low Density)
pins: 1 RA2 (io), 2 RA3 (io), 3 T0CKI (in), 4 ~{MCLR}/VPP (in), 5 VSS (power), 6 RB0 (io), 7 RB1 (io), 8 RB2 (io), 9 RB3 (io), 10 RB4 (io), 11 RB5 (io), 12 RB6 (io), 13 RB7 (io), 14 VDD (power), 15 OSC2/CLKOUT (out), 16 OSC1/CLKIN (in), 17 RA0 (io), 18 RA1 (io)

## PIC16LC56A-04/SS
designator U?
EPROM-Based 8-Bit CMOS Microcontroller, 25 Bytes RAM, 4 MHz, 20-Pin SSOP, 2.5 to 5.5V Supply Range, Commercial Temperature; Manufacturer: Microchip; PartNumber: PIC16LC56A-04/SS; DatasheetVersion: revD, Mar-2002; PackageVersion: revBB, Aug-2009; PackageReference: SSOP-SS20; PackageDescription: 20-Lead Plastic Shrink Small Outline (SS) - 5.3mm Body [SSOP]; Supplier 1: Digi-Key; Supplier Part Number 1: PIC16LC56A-04/SS-ND; Supplier 2: Mouser; Supplier Part Number 2: 579-PIC16LC56A-04/SS; Code_JEDEC: MO-150; ComponentLink1Description: Manufacturer URL; ComponentLink1URL: http://www.microchip.com/; ComponentLink2Description: Datasheet; ComponentLink2URL: http://ww1.microchip.com/downloads/en/DeviceDoc/30453d.pdf; ComponentLink3Description: Package Specification; ComponentLink3URL: http://www.microchip.com/stellent/groups/techpub_sg/documents/packagingspec/en012702.pdf
footprint SSOP-SS20_N (SOP, 20-Leads, Body 7.2x5.2mm, Pitch 0.65mm, IPC Medium Density)
footprint SSOP-SS20_L (SOP, 20-Leads, Body 7.2x5.2mm, Pitch 0.65mm, IPC High Density)
footprint SSOP-SS20_M (SOP, 20-Leads, Body 7.2x5.2mm, Pitch 0.65mm, IPC Low Density)
pins: 1 RA2 (io), 2 RA3 (io), 3 T0CKI (in), 4 ~{MCLR}/VPP (in), 5 VSS (power), 6 VSS (power), 7 RB0 (io), 8 RB1 (io), 9 RB2 (io), 10 RB3 (io), 11 RB4 (io), 12 RB5 (io), 13 RB6 (io), 14 RB7 (io), 15 VDD (power), 16 VDD (power), 17 OSC2/CLKOUT (out), 18 OSC1/CLKIN (in), 19 RA0 (io), 20 RA1 (io)

## PIC16LC56A-04I/P
designator U?
EPROM-Based 8-Bit CMOS Microcontroller, 25 Bytes RAM, 4 MHz, 18-Pin PDIP, 2.7 to 5.5V Supply Range, Industrial Temperature; Manufacturer: Microchip; PartNumber: PIC16LC56A-04I/P; DatasheetVersion: revD, Mar-2002; PackageVersion: revBB, Aug-2009; PackageReference: PDIP300-P18; PackageDescription: 18-Lead Plastic Dual In-Line (P) - 300 mil Body [PDIP]; Supplier 1: Digi-Key; Supplier Part Number 1: PIC16LC56A-04I/P-ND; Supplier 2: Mouser; Supplier Part Number 2: 579-PIC16LC56A-04I/P; Code_JEDEC: MS-001; ComponentLink1Description: Manufacturer URL; ComponentLink1URL: http://www.microchip.com/; ComponentLink2Description: Datasheet; ComponentLink2URL: http://ww1.microchip.com/downloads/en/DeviceDoc/30453d.pdf; ComponentLink3Description: Package Specification; ComponentLink3URL: http://www.microchip.com/stellent/groups/techpub_sg/documents/packagingspec/en012702.pdf
footprint PDIP300-P18 (DIP, 18-Leads, Row Spacing 7.62mm, Pitch 2.54mm, Body 22.9x6.6mm)
pins: 1 RA2 (io), 2 RA3 (io), 3 T0CKI (in), 4 ~{MCLR}/VPP (in), 5 VSS (power), 6 RB0 (io), 7 RB1 (io), 8 RB2 (io), 9 RB3 (io), 10 RB4 (io), 11 RB5 (io), 12 RB6 (io), 13 RB7 (io), 14 VDD (power), 15 OSC2/CLKOUT (out), 16 OSC1/CLKIN (in), 17 RA0 (io), 18 RA1 (io)

## PIC16LC56A-04I/SO
designator U?
EPROM-Based 8-Bit CMOS Microcontroller, 25 Bytes RAM, 4 MHz, 18-Pin SOIC, 2.7 to 5.5V Supply Range, Industrial Temperature; Manufacturer: Microchip; PartNumber: PIC16LC56A-04I/SO; DatasheetVersion: revD, Mar-2002; PackageVersion: revBB, Aug-2009; PackageReference: SOIC-SO18; PackageDescription: 18-Lead Plastic Small Outline (SO) - Wide 7.50mm Body [SOIC]; Supplier 1: Digi-Key; Supplier Part Number 1: PIC16LC56A-04I/SO-ND; Supplier 2: Mouser; Supplier Part Number 2: 579-16LC56A-04I/SO; Code_JEDEC: MS-013; ComponentLink1Description: Manufacturer URL; ComponentLink1URL: http://www.microchip.com/; ComponentLink2Description: Datasheet; ComponentLink2URL: http://ww1.microchip.com/downloads/en/DeviceDoc/30453d.pdf; ComponentLink3Description: Package Specification; ComponentLink3URL: http://www.microchip.com/stellent/groups/techpub_sg/documents/packagingspec/en012702.pdf
footprint SOIC-SO18_N (SOIC, 18-Leads, Body 11.5x7.5mm, Pitch 1.27mm, IPC Medium Density)
footprint SOIC-SO18_L (SOIC, 18-Leads, Body 11.5x7.5mm, Pitch 1.27mm, IPC High Density)
footprint SOIC-SO18_M (SOIC, 18-Leads, Body 11.5x7.5mm, Pitch 1.27mm, IPC Low Density)
pins: 1 RA2 (io), 2 RA3 (io), 3 T0CKI (in), 4 ~{MCLR}/VPP (in), 5 VSS (power), 6 RB0 (io), 7 RB1 (io), 8 RB2 (io), 9 RB3 (io), 10 RB4 (io), 11 RB5 (io), 12 RB6 (io), 13 RB7 (io), 14 VDD (power), 15 OSC2/CLKOUT (out), 16 OSC1/CLKIN (in), 17 RA0 (io), 18 RA1 (io)

## PIC16LC56A-04I/SS
designator U?
EPROM-Based 8-Bit CMOS Microcontroller, 25 Bytes RAM, 4 MHz, 20-Pin SSOP, 2.7 to 5.5V Supply Range, Industrial Temperature; Manufacturer: Microchip; PartNumber: PIC16LC56A-04I/SS; DatasheetVersion: revD, Mar-2002; PackageVersion: revBB, Aug-2009; PackageReference: SSOP-SS20; PackageDescription: 20-Lead Plastic Shrink Small Outline (SS) - 5.3mm Body [SSOP]; Supplier 1: Digi-Key; Supplier Part Number 1: PIC16LC56A-04I/SS-ND; Supplier 2: Mouser; Supplier Part Number 2: 579-16LC56A-04I/SS; Code_JEDEC: MO-150; ComponentLink1Description: Manufacturer URL; ComponentLink1URL: http://www.microchip.com/; ComponentLink2Description: Datasheet; ComponentLink2URL: http://ww1.microchip.com/downloads/en/DeviceDoc/30453d.pdf; ComponentLink3Description: Package Specification; ComponentLink3URL: http://www.microchip.com/stellent/groups/techpub_sg/documents/packagingspec/en012702.pdf
footprint SSOP-SS20_N (SOP, 20-Leads, Body 7.2x5.2mm, Pitch 0.65mm, IPC Medium Density)
footprint SSOP-SS20_L (SOP, 20-Leads, Body 7.2x5.2mm, Pitch 0.65mm, IPC High Density)
footprint SSOP-SS20_M (SOP, 20-Leads, Body 7.2x5.2mm, Pitch 0.65mm, IPC Low Density)
pins: 1 RA2 (io), 2 RA3 (io), 3 T0CKI (in), 4 ~{MCLR}/VPP (in), 5 VSS (power), 6 VSS (power), 7 RB0 (io), 8 RB1 (io), 9 RB2 (io), 10 RB3 (io), 11 RB4 (io), 12 RB5 (io), 13 RB6 (io), 14 RB7 (io), 15 VDD (power), 16 VDD (power), 17 OSC2/CLKOUT (out), 18 OSC1/CLKIN (in), 19 RA0 (io), 20 RA1 (io)

## PIC16LC58B-04/P
designator U?
EPROM-Based 8-Bit CMOS Microcontroller, 73 Bytes RAM, 4 MHz, 18-Pin PDIP, 2.5 to 5.5V Supply Range, Commercial Temperature; Manufacturer: Microchip; PartNumber: PIC16LC58B-04/P; DatasheetVersion: revD, Mar-2002; PackageVersion: revBB, Aug-2009; PackageReference: PDIP300-P18; PackageDescription: 18-Lead Plastic Dual In-Line (P) - 300 mil Body [PDIP]; Supplier 1: Digi-Key; Supplier Part Number 1: PIC16LC58B-04/P-ND; Supplier 2: Mouser; Supplier Part Number 2: 579-PIC16LC58B-04/P; Code_JEDEC: MS-001; ComponentLink1Description: Manufacturer URL; ComponentLink1URL: http://www.microchip.com/; ComponentLink2Description: Datasheet; ComponentLink2URL: http://ww1.microchip.com/downloads/en/DeviceDoc/30453d.pdf; ComponentLink3Description: Package Specification; ComponentLink3URL: http://www.microchip.com/stellent/groups/techpub_sg/documents/packagingspec/en012702.pdf
footprint PDIP300-P18 (DIP, 18-Leads, Row Spacing 7.62mm, Pitch 2.54mm, Body 22.9x6.6mm)
pins: 1 RA2 (io), 2 RA3 (io), 3 T0CKI (in), 4 ~{MCLR}/VPP (in), 5 VSS (power), 6 RB0 (io), 7 RB1 (io), 8 RB2 (io), 9 RB3 (io), 10 RB4 (io), 11 RB5 (io), 12 RB6 (io), 13 RB7 (io), 14 VDD (power), 15 OSC2/CLKOUT (out), 16 OSC1/CLKIN (in), 17 RA0 (io), 18 RA1 (io)

## PIC16LC58B-04/SO
designator U?
EPROM-Based 8-Bit CMOS Microcontroller, 73 Bytes RAM, 4 MHz, 18-Pin SOIC, 2.5 to 5.5V Supply Range, Commercial Temperature; Manufacturer: Microchip; PartNumber: PIC16LC58B-04/SO; DatasheetVersion: revD, Mar-2002; PackageVersion: revBB, Aug-2009; PackageReference: SOIC-SO18; PackageDescription: 18-Lead Plastic Small Outline (SO) - Wide 7.50mm Body [SOIC]; Supplier 1: Digi-Key; Supplier Part Number 1: PIC16LC58B-04/SO-ND; Supplier 2: Mouser; Supplier Part Number 2: 579-PIC16LC58B-04/SO; Code_JEDEC: MS-013; ComponentLink1Description: Manufacturer URL; ComponentLink1URL: http://www.microchip.com/; ComponentLink2Description: Datasheet; ComponentLink2URL: http://ww1.microchip.com/downloads/en/DeviceDoc/30453d.pdf; ComponentLink3Description: Package Specification; ComponentLink3URL: http://www.microchip.com/stellent/groups/techpub_sg/documents/packagingspec/en012702.pdf
footprint SOIC-SO18_N (SOIC, 18-Leads, Body 11.5x7.5mm, Pitch 1.27mm, IPC Medium Density)
footprint SOIC-SO18_L (SOIC, 18-Leads, Body 11.5x7.5mm, Pitch 1.27mm, IPC High Density)
footprint SOIC-SO18_M (SOIC, 18-Leads, Body 11.5x7.5mm, Pitch 1.27mm, IPC Low Density)
pins: 1 RA2 (io), 2 RA3 (io), 3 T0CKI (in), 4 ~{MCLR}/VPP (in), 5 VSS (power), 6 RB0 (io), 7 RB1 (io), 8 RB2 (io), 9 RB3 (io), 10 RB4 (io), 11 RB5 (io), 12 RB6 (io), 13 RB7 (io), 14 VDD (power), 15 OSC2/CLKOUT (out), 16 OSC1/CLKIN (in), 17 RA0 (io), 18 RA1 (io)

## PIC16LC58B-04/SS
designator U?
EPROM-Based 8-Bit CMOS Microcontroller, 73 Bytes RAM, 4 MHz, 20-Pin SSOP, 2.5 to 5.5V Supply Range, Commercial Temperature; Manufacturer: Microchip; PartNumber: PIC16LC58B-04/SS; DatasheetVersion: revD, Mar-2002; PackageVersion: revBB, Aug-2009; PackageReference: SSOP-SS20; PackageDescription: 20-Lead Plastic Shrink Small Outline (SS) - 5.3mm Body [SSOP]; Supplier 1: Digi-Key; Supplier Part Number 1: PIC16LC58B-04/SS-ND; Supplier 2: Mouser; Supplier Part Number 2: 579-PIC16LC58B-04/SS; Code_JEDEC: MO-150; ComponentLink1Description: Manufacturer URL; ComponentLink1URL: http://www.microchip.com/; ComponentLink2Description: Datasheet; ComponentLink2URL: http://ww1.microchip.com/downloads/en/DeviceDoc/30453d.pdf; ComponentLink3Description: Package Specification; ComponentLink3URL: http://www.microchip.com/stellent/groups/techpub_sg/documents/packagingspec/en012702.pdf
footprint SSOP-SS20_N (SOP, 20-Leads, Body 7.2x5.2mm, Pitch 0.65mm, IPC Medium Density)
footprint SSOP-SS20_L (SOP, 20-Leads, Body 7.2x5.2mm, Pitch 0.65mm, IPC High Density)
footprint SSOP-SS20_M (SOP, 20-Leads, Body 7.2x5.2mm, Pitch 0.65mm, IPC Low Density)
pins: 1 RA2 (io), 2 RA3 (io), 3 T0CKI (in), 4 ~{MCLR}/VPP (in), 5 VSS (power), 6 VSS (power), 7 RB0 (io), 8 RB1 (io), 9 RB2 (io), 10 RB3 (io), 11 RB4 (io), 12 RB5 (io), 13 RB6 (io), 14 RB7 (io), 15 VDD (power), 16 VDD (power), 17 OSC2/CLKOUT (out), 18 OSC1/CLKIN (in), 19 RA0 (io), 20 RA1 (io)

## PIC16LC58B-04I/P
designator U?
EPROM-Based 8-Bit CMOS Microcontroller, 73 Bytes RAM, 4 MHz, 18-Pin PDIP, 2.7 to 5.5V Supply Range, Industrial Temperature; Manufacturer: Microchip; PartNumber: PIC16LC58B-04I/P; DatasheetVersion: revD, Mar-2002; PackageVersion: revBB, Aug-2009; PackageReference: PDIP300-P18; PackageDescription: 18-Lead Plastic Dual In-Line (P) - 300 mil Body [PDIP]; Supplier 1: Digi-Key; Supplier Part Number 1: PIC16LC58B-04I/P-ND; Supplier 2: Farnell; Supplier Part Number 2: 9761543; Supplier 3: Farnell; Supplier Part Number 3: 1523968; Supplier 4: Mouser; Supplier Part Number 4: 579-PIC16LC58B-04I/P; Code_JEDEC: MS-001; ComponentLink1Description: Manufacturer URL; ComponentLink1URL: http://www.microchip.com/; ComponentLink2Description: Datasheet; ComponentLink2URL: http://ww1.microchip.com/downloads/en/DeviceDoc/30453d.pdf; ComponentLink3Description: Package Specification; ComponentLink3URL: http://www.microchip.com/stellent/groups/techpub_sg/documents/packagingspec/en012702.pdf
footprint PDIP300-P18 (DIP, 18-Leads, Row Spacing 7.62mm, Pitch 2.54mm, Body 22.9x6.6mm)
pins: 1 RA2 (io), 2 RA3 (io), 3 T0CKI (in), 4 ~{MCLR}/VPP (in), 5 VSS (power), 6 RB0 (io), 7 RB1 (io), 8 RB2 (io), 9 RB3 (io), 10 RB4 (io), 11 RB5 (io), 12 RB6 (io), 13 RB7 (io), 14 VDD (power), 15 OSC2/CLKOUT (out), 16 OSC1/CLKIN (in), 17 RA0 (io), 18 RA1 (io)

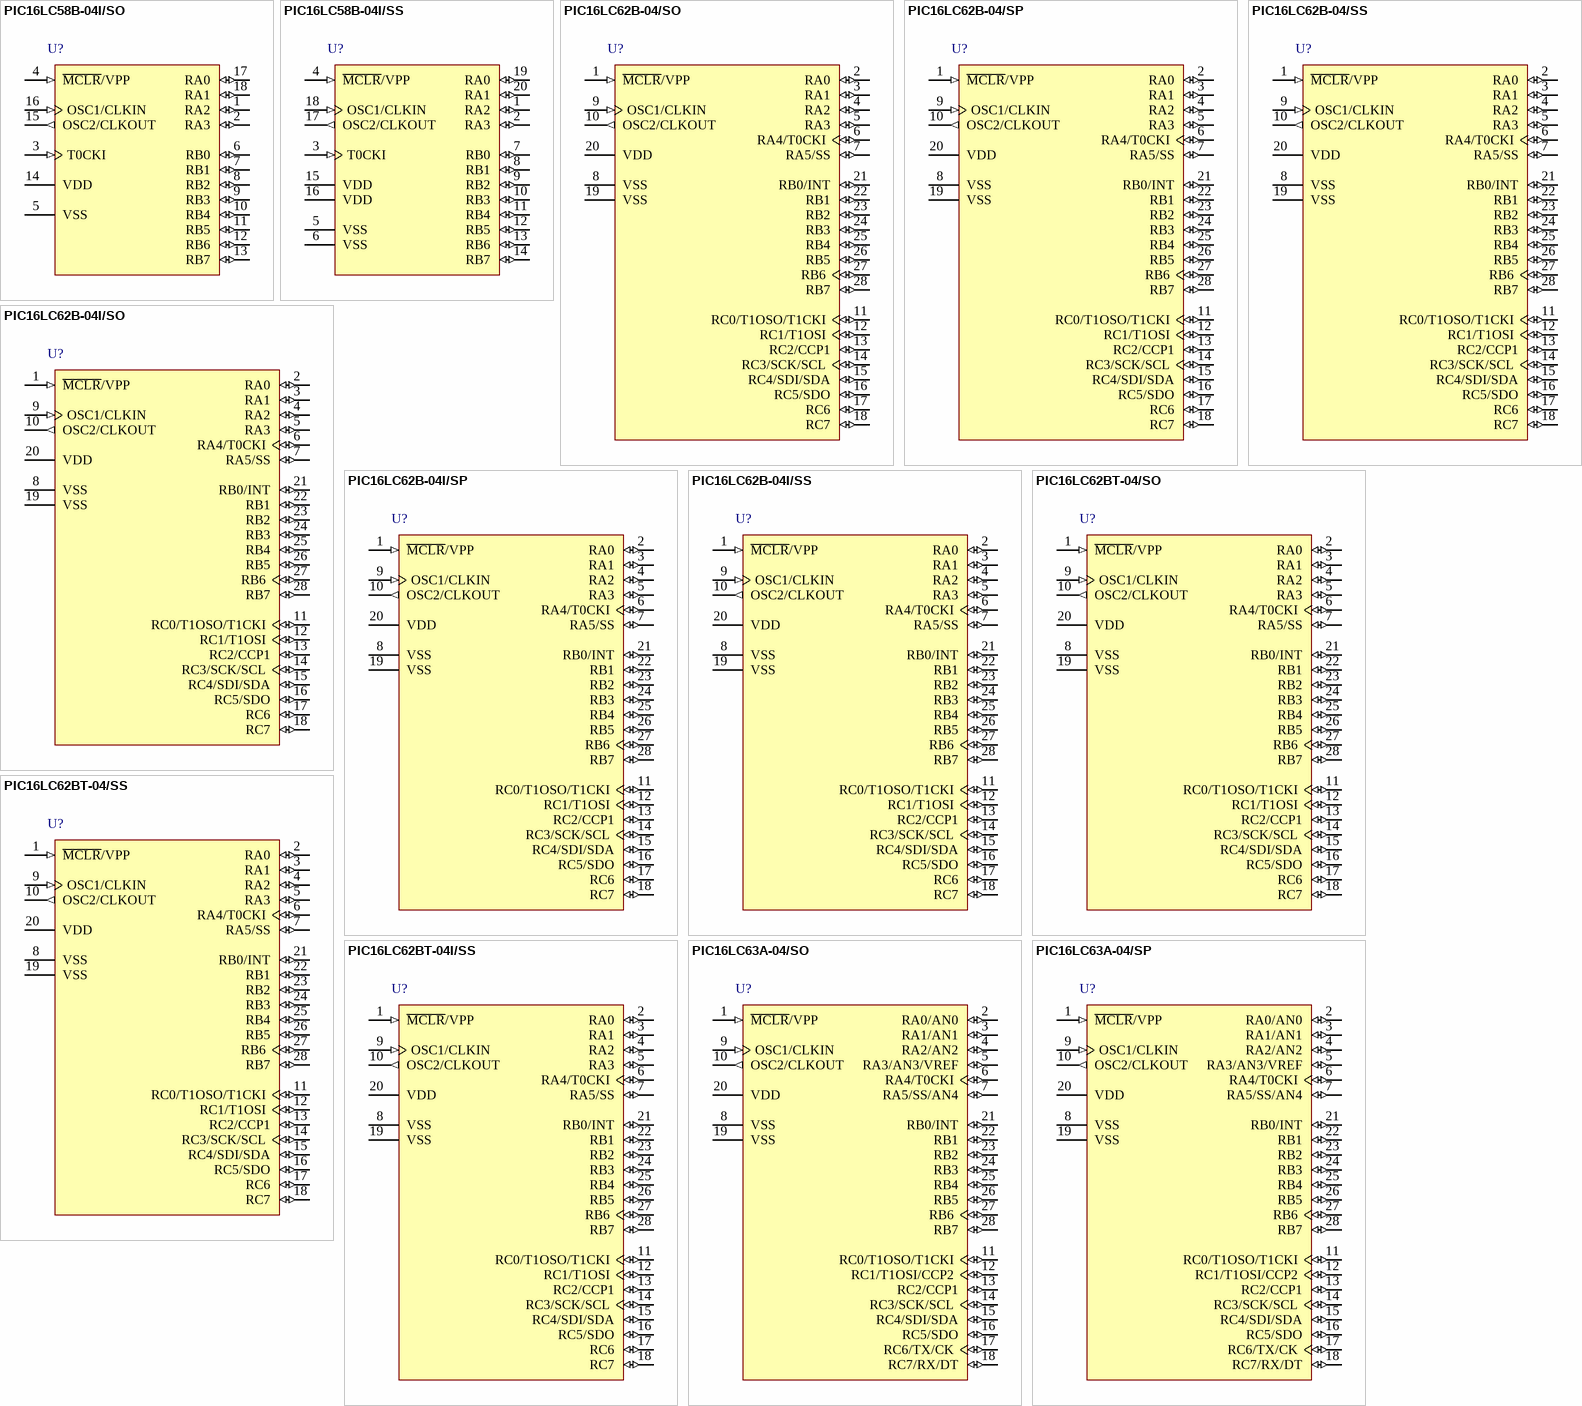
[diagram p89: symbols PIC16LC58B-04I/SO to PIC16LC63A-04/SP]

## PIC16LC58B-04I/SO
designator U?
EPROM-Based 8-Bit CMOS Microcontroller, 73 Bytes RAM, 4 MHz, 18-Pin SOIC, 2.7 to 5.5V Supply Range, Industrial Temperature; Manufacturer: Microchip; PartNumber: PIC16LC58B-04I/SO; DatasheetVersion: revD, Mar-2002; PackageVersion: revBB, Aug-2009; PackageReference: SOIC-SO18; PackageDescription: 18-Lead Plastic Small Outline (SO) - Wide 7.50mm Body [SOIC]; Supplier 1: Digi-Key; Supplier Part Number 1: PIC16LC58B-04I/SO-ND; Supplier 2: Farnell; Supplier Part Number 2: 1084326; Supplier 3: Mouser; Supplier Part Number 3: 579-16LC58B-04I/SO; Code_JEDEC: MS-013; ComponentLink1Description: Manufacturer URL; ComponentLink1URL: http://www.microchip.com/; ComponentLink2Description: Datasheet; ComponentLink2URL: http://ww1.microchip.com/downloads/en/DeviceDoc/30453d.pdf; ComponentLink3Description: Package Specification; ComponentLink3URL: http://www.microchip.com/stellent/groups/techpub_sg/documents/packagingspec/en012702.pdf
footprint SOIC-SO18_N (SOIC, 18-Leads, Body 11.5x7.5mm, Pitch 1.27mm, IPC Medium Density)
footprint SOIC-SO18_L (SOIC, 18-Leads, Body 11.5x7.5mm, Pitch 1.27mm, IPC High Density)
footprint SOIC-SO18_M (SOIC, 18-Leads, Body 11.5x7.5mm, Pitch 1.27mm, IPC Low Density)
pins: 1 RA2 (io), 2 RA3 (io), 3 T0CKI (in), 4 ~{MCLR}/VPP (in), 5 VSS (power), 6 RB0 (io), 7 RB1 (io), 8 RB2 (io), 9 RB3 (io), 10 RB4 (io), 11 RB5 (io), 12 RB6 (io), 13 RB7 (io), 14 VDD (power), 15 OSC2/CLKOUT (out), 16 OSC1/CLKIN (in), 17 RA0 (io), 18 RA1 (io)

## PIC16LC58B-04I/SS
designator U?
EPROM-Based 8-Bit CMOS Microcontroller, 73 Bytes RAM, 4 MHz, 20-Pin SSOP, 2.7 to 5.5V Supply Range, Industrial Temperature; Manufacturer: Microchip; PartNumber: PIC16LC58B-04I/SS; DatasheetVersion: revD, Mar-2002; PackageVersion: revBB, Aug-2009; PackageReference: SSOP-SS20; PackageDescription: 20-Lead Plastic Shrink Small Outline (SS) - 5.3mm Body [SSOP]; Supplier 1: Digi-Key; Supplier Part Number 1: PIC16LC58B-04I/SS-ND; Supplier 2: Mouser; Supplier Part Number 2: 579-16LC58B-04I/SS; Code_JEDEC: MO-150; ComponentLink1Description: Manufacturer URL; ComponentLink1URL: http://www.microchip.com/; ComponentLink2Description: Datasheet; ComponentLink2URL: http://ww1.microchip.com/downloads/en/DeviceDoc/30453d.pdf; ComponentLink3Description: Package Specification; ComponentLink3URL: http://www.microchip.com/stellent/groups/techpub_sg/documents/packagingspec/en012702.pdf
footprint SSOP-SS20_N (SOP, 20-Leads, Body 7.2x5.2mm, Pitch 0.65mm, IPC Medium Density)
footprint SSOP-SS20_L (SOP, 20-Leads, Body 7.2x5.2mm, Pitch 0.65mm, IPC High Density)
footprint SSOP-SS20_M (SOP, 20-Leads, Body 7.2x5.2mm, Pitch 0.65mm, IPC Low Density)
pins: 1 RA2 (io), 2 RA3 (io), 3 T0CKI (in), 4 ~{MCLR}/VPP (in), 5 VSS (power), 6 VSS (power), 7 RB0 (io), 8 RB1 (io), 9 RB2 (io), 10 RB3 (io), 11 RB4 (io), 12 RB5 (io), 13 RB6 (io), 14 RB7 (io), 15 VDD (power), 16 VDD (power), 17 OSC2/CLKOUT (out), 18 OSC1/CLKIN (in), 19 RA0 (io), 20 RA1 (io)

## PIC16LC62B-04/SO
designator U?
8-Bit CMOS Microcontroller, 128 Bytes RAM, 4 MHz, 28-Pin SOIC, Extended VDD Range, Commercial Temperature; Manufacturer: Microchip; PartNumber: PIC16LC62B-04/SO; DatasheetVersion: revB, Nov-2002; PackageVersion: revBB, Aug-2009; PackageReference: SOIC-SO28; PackageDescription: 28-Lead Plastic Small Outline (SO) - Wide 7.50mm Body [SOIC]; Supplier 1: Digi-Key; Supplier Part Number 1: PIC16LC62B-04/SO-ND; Supplier 2: Mouser; Supplier Part Number 2: 579-PIC16LC62B-04/SO; Code_JEDEC: MS-013; ComponentLink1Description: Manufacturer URL; ComponentLink1URL: http://www.microchip.com/; ComponentLink2Description: Datasheet; ComponentLink2URL: http://ww1.microchip.com/downloads/en/DeviceDoc/35008b.pdf; ComponentLink3Description: Package Specification; ComponentLink3URL: http://www.microchip.com/stellent/groups/techpub_sg/documents/packagingspec/en012702.pdf
footprint SOIC-SO28_N (SOIC, 28-Leads, Body 17.9x7.5mm, Pitch 1.27mm, IPC Medium Density)
footprint SOIC-SO28_L (SOIC, 28-Leads, Body 17.9x7.5mm, Pitch 1.27mm, IPC High Density)
footprint SOIC-SO28_M (SOIC, 28-Leads, Body 17.9x7.5mm, Pitch 1.27mm, IPC Low Density)
pins: 1 ~{MCLR}/VPP (in), 2 RA0 (io), 3 RA1 (io), 4 RA2 (io), 5 RA3 (io), 6 RA4/T0CKI (io), 7 RA5/SS (io), 8 VSS (power), 9 OSC1/CLKIN (in), 10 OSC2/CLKOUT (out), 11 RC0/T1OSO/T1CKI (io), 12 RC1/T1OSI (io), 13 RC2/CCP1 (io), 14 RC3/SCK/SCL (io), 15 RC4/SDI/SDA (io), 16 RC5/SDO (io), 17 RC6 (io), 18 RC7 (io), 19 VSS (power), 20 VDD (power), 21 RB0/INT (io), 22 RB1 (io), 23 RB2 (io), 24 RB3 (io), 25 RB4 (io), 26 RB5 (io), 27 RB6 (io), 28 RB7 (io)

## PIC16LC62B-04/SP
designator U?
8-Bit CMOS Microcontroller, 128 Bytes RAM, 4 MHz, 28-Pin PDIP 300mil, Extended VDD Range, Commercial Temperature; Manufacturer: Microchip; PartNumber: PIC16LC62B-04/SP; DatasheetVersion: revB, Nov-2002; PackageVersion: revBB, Aug-2009; PackageReference: SPDIP300-SP28; PackageDescription: 28-Lead Skinny Plastic Dual In-Line (SP) - 300 mil Body [SPDIP]; Supplier 1: Digi-Key; Supplier Part Number 1: PIC16LC62B-04/SP-ND; Supplier 2: Mouser; Supplier Part Number 2: 579-PIC16LC62B-04/SP; ComponentLink1Description: Manufacturer URL; ComponentLink1URL: http://www.microchip.com/; ComponentLink2Description: Datasheet; ComponentLink2URL: http://ww1.microchip.com/downloads/en/DeviceDoc/35008b.pdf; ComponentLink3Description: Package Specification; ComponentLink3URL: http://www.microchip.com/stellent/groups/techpub_sg/documents/packagingspec/en012702.pdf
footprint SPDIP300-SP28 (DIP, 28-Leads, Row Spacing 7.62mm, Pitch 2.54mm, Body 34.9x6.8mm)
pins: 1 ~{MCLR}/VPP (in), 2 RA0 (io), 3 RA1 (io), 4 RA2 (io), 5 RA3 (io), 6 RA4/T0CKI (io), 7 RA5/SS (io), 8 VSS (power), 9 OSC1/CLKIN (in), 10 OSC2/CLKOUT (out), 11 RC0/T1OSO/T1CKI (io), 12 RC1/T1OSI (io), 13 RC2/CCP1 (io), 14 RC3/SCK/SCL (io), 15 RC4/SDI/SDA (io), 16 RC5/SDO (io), 17 RC6 (io), 18 RC7 (io), 19 VSS (power), 20 VDD (power), 21 RB0/INT (io), 22 RB1 (io), 23 RB2 (io), 24 RB3 (io), 25 RB4 (io), 26 RB5 (io), 27 RB6 (io), 28 RB7 (io)

## PIC16LC62B-04/SS
designator U?
8-Bit CMOS Microcontroller, 128 Bytes RAM, 4 MHz, 28-Pin SSOP, Extended VDD Range, Commercial Temperature; Manufacturer: Microchip; PartNumber: PIC16LC62B-04/SS; DatasheetVersion: revB, Nov-2002; PackageVersion: revBB, Aug-2009; PackageReference: SSOP-SS28; PackageDescription: 28-Lead Plastic Shrink Small Outline (SS) - 5.3mm Body [SSOP]; Supplier 1: Digi-Key; Supplier Part Number 1: PIC16LC62B-04/SS-ND; Supplier 2: Mouser; Supplier Part Number 2: 579-PIC16LC62B-04/SS; Code_JEDEC: MS-150; ComponentLink1Description: Manufacturer URL; ComponentLink1URL: http://www.microchip.com/; ComponentLink2Description: Datasheet; ComponentLink2URL: http://ww1.microchip.com/downloads/en/DeviceDoc/35008b.pdf; ComponentLink3Description: Package Specification; ComponentLink3URL: http://www.microchip.com/stellent/groups/techpub_sg/documents/packagingspec/en012702.pdf
footprint SSOP-SS28_N (SOP, 28-Leads, Body 10.2x5.2mm, Pitch 0.65mm, IPC Medium Density)
footprint SSOP-SS28_L (SOP, 28-Leads, Body 10.2x5.2mm, Pitch 0.65mm, IPC High Density)
footprint SSOP-SS28_M (SOP, 28-Leads, Body 10.2x5.2mm, Pitch 0.65mm, IPC Low Density)
pins: 1 ~{MCLR}/VPP (in), 2 RA0 (io), 3 RA1 (io), 4 RA2 (io), 5 RA3 (io), 6 RA4/T0CKI (io), 7 RA5/SS (io), 8 VSS (power), 9 OSC1/CLKIN (in), 10 OSC2/CLKOUT (out), 11 RC0/T1OSO/T1CKI (io), 12 RC1/T1OSI (io), 13 RC2/CCP1 (io), 14 RC3/SCK/SCL (io), 15 RC4/SDI/SDA (io), 16 RC5/SDO (io), 17 RC6 (io), 18 RC7 (io), 19 VSS (power), 20 VDD (power), 21 RB0/INT (io), 22 RB1 (io), 23 RB2 (io), 24 RB3 (io), 25 RB4 (io), 26 RB5 (io), 27 RB6 (io), 28 RB7 (io)

## PIC16LC62B-04I/SO
designator U?
8-Bit CMOS Microcontroller, 128 Bytes RAM, 4 MHz, 28-Pin SOIC, Extended VDD Range, Industrial Temperature; Manufacturer: Microchip; PartNumber: PIC16LC62B-04I/SO; DatasheetVersion: revB, Nov-2002; PackageVersion: revBB, Aug-2009; PackageReference: SOIC-SO28; PackageDescription: 28-Lead Plastic Small Outline (SO) - Wide 7.50mm Body [SOIC]; Supplier 1: Digi-Key; Supplier Part Number 1: PIC16LC62B-04I/SO-ND; Supplier 2: Newark; Supplier Part Number 2: 23C5272; Supplier 3: Mouser; Supplier Part Number 3: 579-16LC62B-04I/SO; Code_JEDEC: MS-013; ComponentLink1Description: Manufacturer URL; ComponentLink1URL: http://www.microchip.com/; ComponentLink2Description: Datasheet; ComponentLink2URL: http://ww1.microchip.com/downloads/en/DeviceDoc/35008b.pdf; ComponentLink3Description: Package Specification; ComponentLink3URL: http://www.microchip.com/stellent/groups/techpub_sg/documents/packagingspec/en012702.pdf
footprint SOIC-SO28_N (SOIC, 28-Leads, Body 17.9x7.5mm, Pitch 1.27mm, IPC Medium Density)
footprint SOIC-SO28_L (SOIC, 28-Leads, Body 17.9x7.5mm, Pitch 1.27mm, IPC High Density)
footprint SOIC-SO28_M (SOIC, 28-Leads, Body 17.9x7.5mm, Pitch 1.27mm, IPC Low Density)
pins: 1 ~{MCLR}/VPP (in), 2 RA0 (io), 3 RA1 (io), 4 RA2 (io), 5 RA3 (io), 6 RA4/T0CKI (io), 7 RA5/SS (io), 8 VSS (power), 9 OSC1/CLKIN (in), 10 OSC2/CLKOUT (out), 11 RC0/T1OSO/T1CKI (io), 12 RC1/T1OSI (io), 13 RC2/CCP1 (io), 14 RC3/SCK/SCL (io), 15 RC4/SDI/SDA (io), 16 RC5/SDO (io), 17 RC6 (io), 18 RC7 (io), 19 VSS (power), 20 VDD (power), 21 RB0/INT (io), 22 RB1 (io), 23 RB2 (io), 24 RB3 (io), 25 RB4 (io), 26 RB5 (io), 27 RB6 (io), 28 RB7 (io)

## PIC16LC62B-04I/SP
designator U?
8-Bit CMOS Microcontroller, 128 Bytes RAM, 4 MHz, 28-Pin PDIP 300mil, Extended VDD Range, Industrial Temperature; Manufacturer: Microchip; PartNumber: PIC16LC62B-04I/SP; DatasheetVersion: revB, Nov-2002; PackageVersion: revBB, Aug-2009; PackageReference: SPDIP300-SP28; PackageDescription: 28-Lead Skinny Plastic Dual In-Line (SP) - 300 mil Body [SPDIP]; Supplier 1: Digi-Key; Supplier Part Number 1: PIC16LC62B-04I/SP-ND; Supplier 2: Mouser; Supplier Part Number 2: 579-16LC62B-04I/SP; ComponentLink1Description: Manufacturer URL; ComponentLink1URL: http://www.microchip.com/; ComponentLink2Description: Datasheet; ComponentLink2URL: http://ww1.microchip.com/downloads/en/DeviceDoc/35008b.pdf; ComponentLink3Description: Package Specification; ComponentLink3URL: http://www.microchip.com/stellent/groups/techpub_sg/documents/packagingspec/en012702.pdf
footprint SPDIP300-SP28 (DIP, 28-Leads, Row Spacing 7.62mm, Pitch 2.54mm, Body 34.9x6.8mm)
pins: 1 ~{MCLR}/VPP (in), 2 RA0 (io), 3 RA1 (io), 4 RA2 (io), 5 RA3 (io), 6 RA4/T0CKI (io), 7 RA5/SS (io), 8 VSS (power), 9 OSC1/CLKIN (in), 10 OSC2/CLKOUT (out), 11 RC0/T1OSO/T1CKI (io), 12 RC1/T1OSI (io), 13 RC2/CCP1 (io), 14 RC3/SCK/SCL (io), 15 RC4/SDI/SDA (io), 16 RC5/SDO (io), 17 RC6 (io), 18 RC7 (io), 19 VSS (power), 20 VDD (power), 21 RB0/INT (io), 22 RB1 (io), 23 RB2 (io), 24 RB3 (io), 25 RB4 (io), 26 RB5 (io), 27 RB6 (io), 28 RB7 (io)

## PIC16LC62B-04I/SS
designator U?
8-Bit CMOS Microcontroller, 128 Bytes RAM, 4 MHz, 28-Pin SSOP, Extended VDD Range, Industrial Temperature; Manufacturer: Microchip; PartNumber: PIC16LC62B-04I/SS; DatasheetVersion: revB, Nov-2002; PackageVersion: revBB, Aug-2009; PackageReference: SSOP-SS28; PackageDescription: 28-Lead Plastic Shrink Small Outline (SS) - 5.3mm Body [SSOP]; Supplier 1: Digi-Key; Supplier Part Number 1: PIC16LC62B-04I/SS-ND; Supplier 2: Mouser; Supplier Part Number 2: 579-16LC62B-04I/SS; Code_JEDEC: MS-150; ComponentLink1Description: Manufacturer URL; ComponentLink1URL: http://www.microchip.com/; ComponentLink2Description: Datasheet; ComponentLink2URL: http://ww1.microchip.com/downloads/en/DeviceDoc/35008b.pdf; ComponentLink3Description: Package Specification; ComponentLink3URL: http://www.microchip.com/stellent/groups/techpub_sg/documents/packagingspec/en012702.pdf
footprint SSOP-SS28_N (SOP, 28-Leads, Body 10.2x5.2mm, Pitch 0.65mm, IPC Medium Density)
footprint SSOP-SS28_L (SOP, 28-Leads, Body 10.2x5.2mm, Pitch 0.65mm, IPC High Density)
footprint SSOP-SS28_M (SOP, 28-Leads, Body 10.2x5.2mm, Pitch 0.65mm, IPC Low Density)
pins: 1 ~{MCLR}/VPP (in), 2 RA0 (io), 3 RA1 (io), 4 RA2 (io), 5 RA3 (io), 6 RA4/T0CKI (io), 7 RA5/SS (io), 8 VSS (power), 9 OSC1/CLKIN (in), 10 OSC2/CLKOUT (out), 11 RC0/T1OSO/T1CKI (io), 12 RC1/T1OSI (io), 13 RC2/CCP1 (io), 14 RC3/SCK/SCL (io), 15 RC4/SDI/SDA (io), 16 RC5/SDO (io), 17 RC6 (io), 18 RC7 (io), 19 VSS (power), 20 VDD (power), 21 RB0/INT (io), 22 RB1 (io), 23 RB2 (io), 24 RB3 (io), 25 RB4 (io), 26 RB5 (io), 27 RB6 (io), 28 RB7 (io)

## PIC16LC62BT-04/SO
designator U?
8-Bit CMOS Microcontroller, 128 Bytes RAM, 4 MHz, 28-Pin SOIC, Extended VDD Range, Commercial Temperature, Tape and Reel; Manufacturer: Microchip; PartNumber: PIC16LC62BT-04/SO; DatasheetVersion: revB, Nov-2002; PackageVersion: revBB, Aug-2009; PackageReference: SOIC-SO28; PackageDescription: 28-Lead Plastic Small Outline (SO) - Wide 7.50mm Body [SOIC]; Supplier 1: Digi-Key; Supplier Part Number 1: PIC16LC62BT-04/SO-ND; Supplier 2: Mouser; Supplier Part Number 2: 579-16LC62BT-04/SO; Code_JEDEC: MS-013; ComponentLink1Description: Manufacturer URL; ComponentLink1URL: http://www.microchip.com/; ComponentLink2Description: Datasheet; ComponentLink2URL: http://ww1.microchip.com/downloads/en/DeviceDoc/35008b.pdf; ComponentLink3Description: Package Specification; ComponentLink3URL: http://www.microchip.com/stellent/groups/techpub_sg/documents/packagingspec/en012702.pdf
footprint SOIC-SO28_N (SOIC, 28-Leads, Body 17.9x7.5mm, Pitch 1.27mm, IPC Medium Density)
footprint SOIC-SO28_L (SOIC, 28-Leads, Body 17.9x7.5mm, Pitch 1.27mm, IPC High Density)
footprint SOIC-SO28_M (SOIC, 28-Leads, Body 17.9x7.5mm, Pitch 1.27mm, IPC Low Density)
pins: 1 ~{MCLR}/VPP (in), 2 RA0 (io), 3 RA1 (io), 4 RA2 (io), 5 RA3 (io), 6 RA4/T0CKI (io), 7 RA5/SS (io), 8 VSS (power), 9 OSC1/CLKIN (in), 10 OSC2/CLKOUT (out), 11 RC0/T1OSO/T1CKI (io), 12 RC1/T1OSI (io), 13 RC2/CCP1 (io), 14 RC3/SCK/SCL (io), 15 RC4/SDI/SDA (io), 16 RC5/SDO (io), 17 RC6 (io), 18 RC7 (io), 19 VSS (power), 20 VDD (power), 21 RB0/INT (io), 22 RB1 (io), 23 RB2 (io), 24 RB3 (io), 25 RB4 (io), 26 RB5 (io), 27 RB6 (io), 28 RB7 (io)